# Altium schematic symbol library BMP180.SchLib: 1 symbol
Pins are listed as number, name and electrical type; pins without a type are passive.

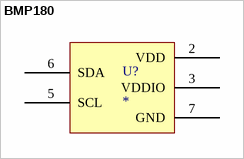
[diagram p0: symbol BMP180]

## BMP180
designator U?
footprint BMP180
pins: 2 VDD, 3 VDDIO, 5 SCL, 6 SDA, 7 GND